# EAGLE library part 416131160808 (library SamacSys_Parts)
8 Way Surface Mount DIP Switch 8P, Flat Actuator Source: Datasheet <https://katalog.we-online.com/em/datasheet/4161311608xx.pdf>
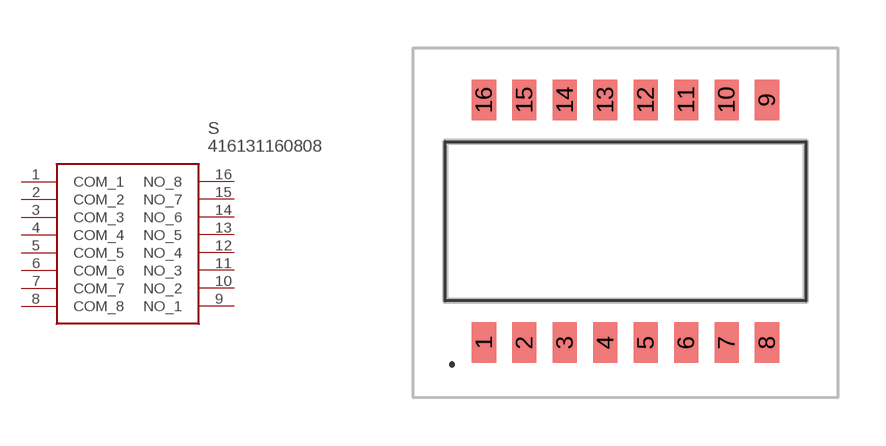
[diagram p4: symbol with the pads of 416131160808; footprint 416131160808]

Designator prefix S

## 416131160808 (DESCRIPTION: 8 Way Surface Mount DIP Switch 8P, Flat Actuator; HEIGHT: 2.65mm; MANUFACTURER_NAME: Wurth Elektronik; MANUFACTURER_PART_NUMBER: 416131160808; MOUSER_PART_NUMBER: 710-416131160808; MOUSER_PRICE-STOCK: https://www.mouser.co.uk/ProductDetail/Wurth-Elektronik/416131160808?qs=2kOmHSv6VfQtTiuxPi%252BjIg%3D%3D)  [416131160808]
1  COM_1
2  COM_2
3  COM_3
4  COM_4
5  COM_5
6  COM_6
7  COM_7
8  COM_8
9  NO_1
10  NO_2
11  NO_3
12  NO_4
13  NO_5
14  NO_6
15  NO_7
16  NO_8

## Footprint 416131160808 (pad centres in mm)
416131160808-1
smd 0.76 x 1.27: 1 -4.445,-3.81; 2 -3.175,-3.81; 3 -1.905,-3.81; 4 -0.635,-3.81; 5 0.635,-3.81; 6 1.905,-3.81; 7 3.175,-3.81; 8 4.445,-3.81; 9 4.445,3.81; 10 3.175,3.81; 11 1.905,3.81; 12 0.635,3.81; 13 -0.635,3.81; 14 -1.905,3.81; 15 -3.175,3.81; 16 -4.445,3.81